# EAGLE library part HEADER10POS (library hijack)
Fits 3M 950510-6102-AR
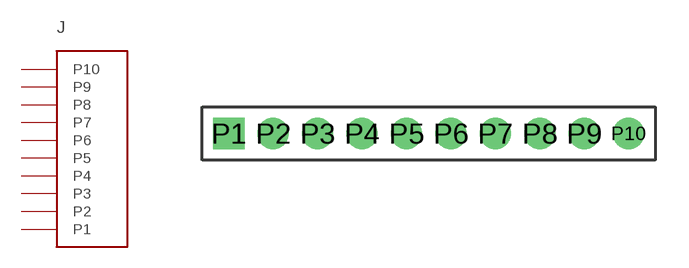
[diagram p0: symbol with the pads of 10PIN2MMHEADER; footprint 10PIN2MMHEADER]

Designator prefix J

## HEADER10POS  [10PIN2MMHEADER]
P1  P1
P2  P2
P3  P3
P4  P4
P5  P5
P6  P6
P7  P7
P8  P8
P9  P9
P10  P10

## Footprint 10PIN2MMHEADER (pad centres in mm)
2mm header with 35mil drill, 53mil pads Samtec TMM single row, throug-hole
drill 0.89 pad 1.346 square: P1 -9,0
drill 0.89 pad 1.346: P2 -7,0; P3 -5,0; P4 -3,0; P5 -1,0; P6 1,0; P7 3,0; P8 5,0; P9 7,0; P10 9,0